# Altium footprint library shm_pcb_lib.PcbLib: 3 footprints
Each footprint in its own frame and in the unit in brackets; x right, y up, seen from the top. Pads: shape width x height; smd on the part's side, far side on the other; paste and mask are expansions set on the pad; w line width, h text height; cw(c..) or ccw(c..) is an arc to the next point about the centre after c.
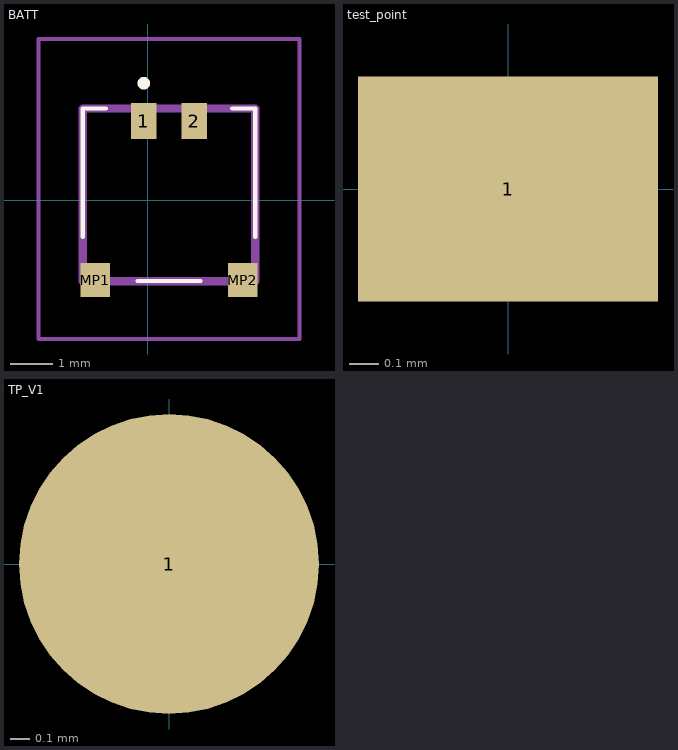
[diagram p0: the footprints below, top view; thin cyan lines are the x and y axes]

## BATT [mm]
pads (4):
  rect 0.6x0.85 smd: 1(-0.092,1.877) 2(1.108,1.877)
  rect 0.7x0.8 smd: MP1(-1.242,-1.898) MP2(2.258,-1.898)
Top Overlay:
  lines w0.1: -1.542,2.177 -1.542,-0.873 -1.542,2.177 ; -1.542,2.177 -0.992,2.177 -1.542,2.177 ; 2.558,2.177 2.008,2.177 2.558,2.177 ; 2.558,2.177 2.558,-0.873 2.558,2.177 ; -0.242,-1.923 1.258,-1.923 -0.242,-1.923
  lines w0.2: -0.092,2.727 cw(c-0.092,2.777) -0.092,2.827 ; -0.092,2.727 ccw(c-0.092,2.777) -0.092,2.827 ; -0.092,2.727 cw(c-0.092,2.777) -0.092,2.827
Mechanical 13:
  lines w0.2: -1.542,-1.923 -1.542,2.177 2.558,2.177 2.558,-1.923 -1.542,-1.923
Mechanical 15:
  lines w0.1: -2.592,-3.298 -2.592,3.827 3.608,3.827 3.608,-3.298 -2.592,-3.298
3D body "DF57H-2P-1.2V_23_.stp": height 1.65, standoff 0, extent -1.542,-2.228 2.558,2.242

## test_point [mil]
height 40
pads (1):
  rect 40x30 smd: 1(0,0)
3D body: height 3.94, standoff 0, extent -22.64,-16.73 22.64,16.73

## TP_V1 [mil]
pads (1):
  round 60 smd: 1(0,0)
3D body: height 10, standoff 0, extent -22.64,-21.16 22.64,21.16